# EAGLE library part TPS54540 (library custom)
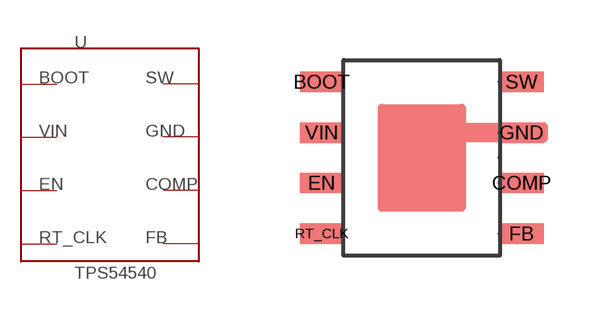
[diagram p4: symbol with the pads of R-PDSO-G8; footprint R-PDSO-G8]

Designator prefix -

## TPS54540  [R-PDSO-G8]
BOOT  BOOT
COMP  COMP
EN  EN
FB  FB
GND  GND
RT_CLK  RT_CLK
SW  SW
VIN  VIN

## Footprint R-PDSO-G8 (pad centres in mm)
smd 1.1 x 0.51: BOOT -2.5,1.4; COMP 2.5,-1.13; EN -2.5,-1.13; FB 2.5,-2.4; GND 2.5,0.13; RT_CLK -2.5,-2.4; SW 2.5,1.4; VIN -2.5,0.13